# Altium schematic symbol library MIC5317-3.3YM5-TR.SchLib: 1 symbol
Pins are listed as number, name and electrical type; pins without a type are passive.

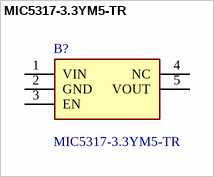
[diagram p0: symbol MIC5317-3.3YM5-TR]

## MIC5317-3.3YM5-TR
designator B?
MICROCHIP - MIC5317-3.3YM5-TR - LDO, FIXED, 3.3V, 0.15A, -40 TO 125DEG C; Geometry.Height: 1.45mm; Mouser Part Number: 998-MIC5317-3.3YM5TR; Mouser Price/Stock: https://www.mouser.co.uk/ProductDetail/Microchip-Technology/MIC5317-3.3YM5-TR?qs=U6T8BxXiZAUR0BSg3XdMLw%3D%3D; Manufacturer_Name: Microchip; Manufacturer_Part_Number: MIC5317-3.3YM5-TR; Datasheet Link: http://ww1.microchip.com/downloads/en/devicedoc/mic5317.pdf
footprint SOT95P280X145-5N
pins: 1 VIN, 2 GND, 3 EN, 4 NC, 5 VOUT